# Altium integrated library ZXCT1010E5TA.IntLib: 1 symbol
Pins are listed as number, name and electrical type; pins without a type are passive.

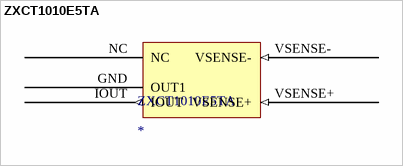
[diagram p0: symbol ZXCT1010E5TA]

## ZXCT1010E5TA
designator ZXCT1010E5TA
footprint ZXCT1010E5TA
pins: GND OUT1, IOUT (out), NC, VSENSE+ (in), VSENSE- (in)